# Altium footprint library Indicator.PcbLib: 14 footprints
Each footprint in its own frame and in the unit in brackets; x right, y up, seen from the top. Pads: shape width x height; smd on the part's side, far side on the other; paste and mask are expansions set on the pad; w line width, h text height; cw(c..) or ccw(c..) is an arc to the next point about the centre after c.
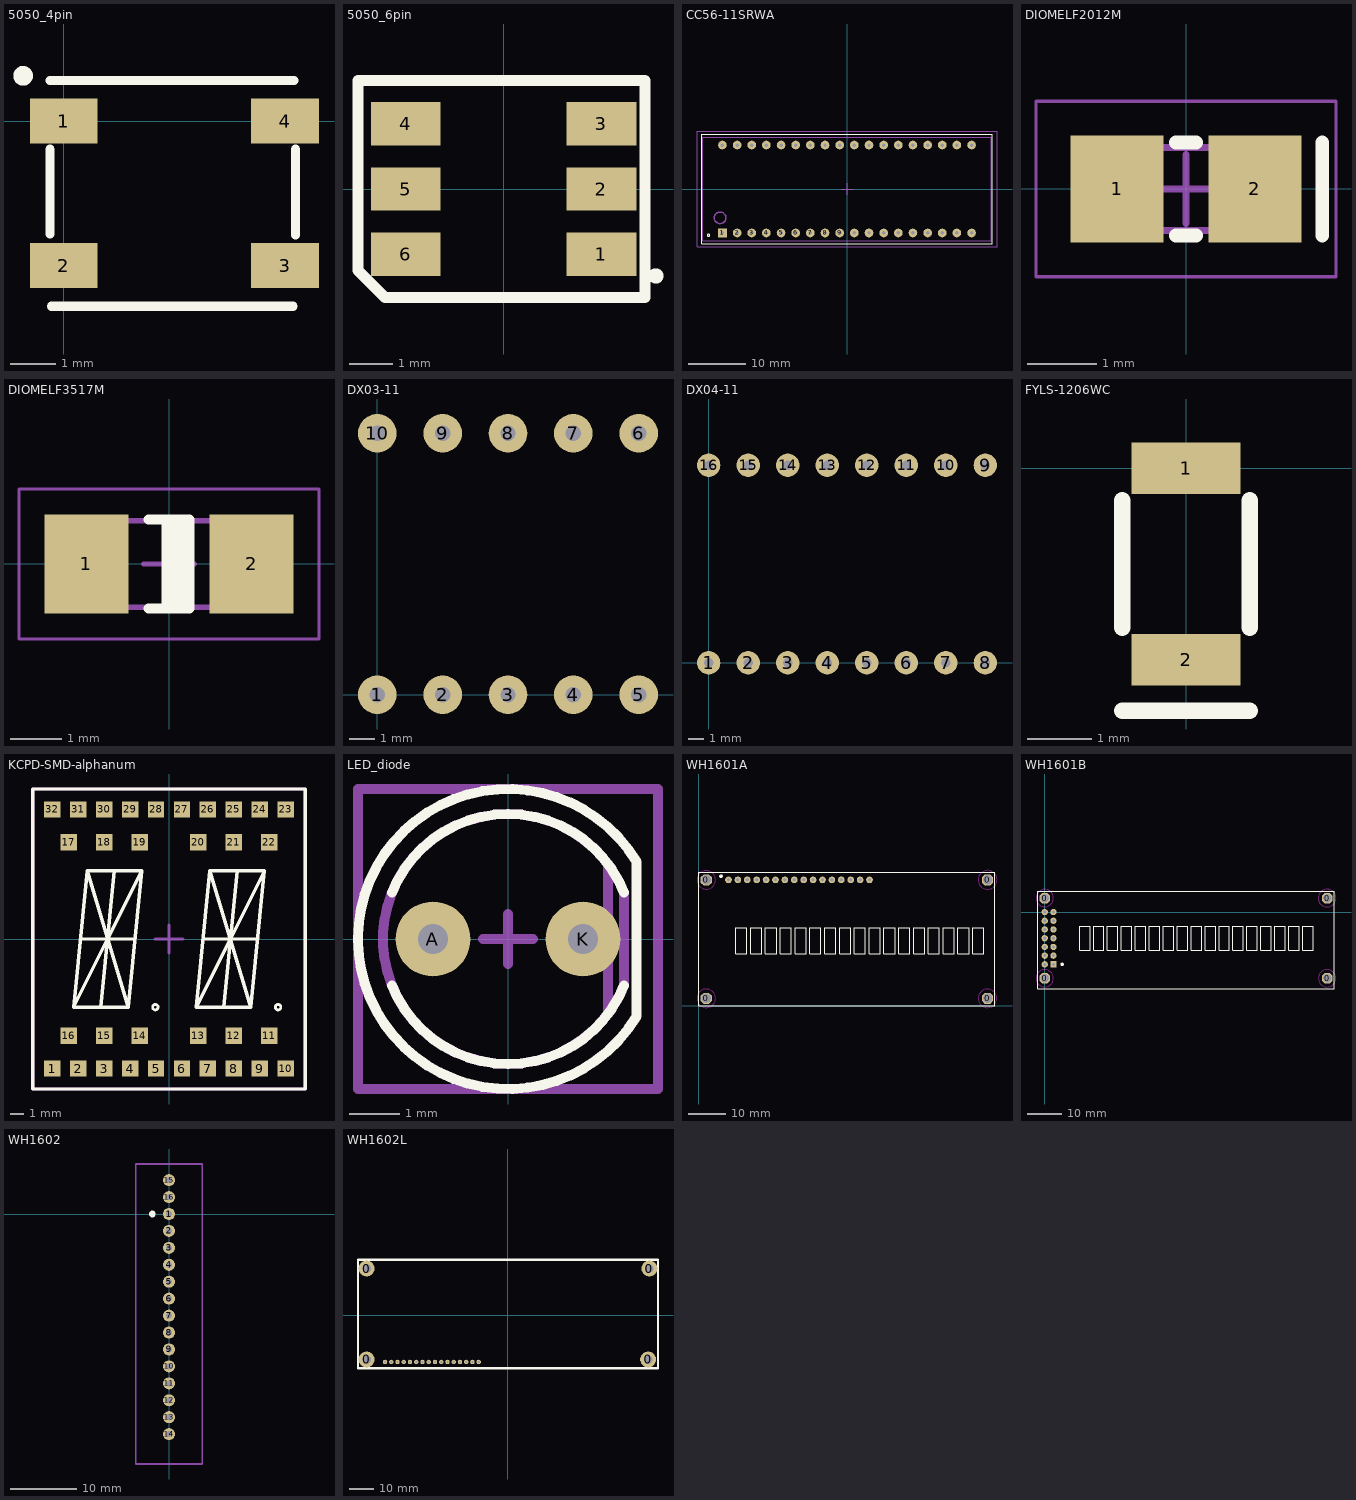
[diagram p0: the footprints below, top view; thin cyan lines are the x and y axes]

## 5050_4pin [mm] "LED 5*5 mm"
height 4
pads (4):
  rect 1.5x1 smd: 1(0,0) 2(0,-3.2) 3(4.9,-3.2) 4(4.9,0)
Top Overlay:
  circle w0.254: c-0.9,1 r0.09
  lines w0.2: -0.3,-2.5 -0.3,-0.625 ; -0.3,0.9 5.1,0.9 ; -0.275,-4.1 5.075,-4.1 ; 5.125,-2.525 5.125,-0.625
3D body "led5050.SLDPRT": height 1.5, standoff 0, extent -0.275,-4.1 5.125,0.9

## 5050_6pin [mm] "LED 5*5 mm"
height 4
pads (6):
  rect 1.6x1 smd: 1(2.25,-1.5) 2(2.25,0) 3(2.25,1.5) 4(-2.25,1.5) 5(-2.25,0) 6(-2.25,-1.5)
Top Overlay:
  circle w0.254: c3.5,-2 r0.05
  lines w0.254: -3.35,-1.875 -3.35,2.5 3.25,2.5 3.25,-2.5 -2.725,-2.5 -3.35,-1.875
3D body "led5050.SLDPRT": height 1.5, standoff 0, extent -2.7,-2.5 2.7,2.5

## CC56-11SRWA [mm]
pads (36):
  rect 1.5x1.5 hole 0.6: 1(-21.59,-7.62)
  round 1.5 hole 0.6: 2(-19.05,-7.62) 3(-16.51,-7.62) 4(-13.97,-7.62) 5(-11.43,-7.62) 6(-8.89,-7.62) 7(-6.35,-7.62) 8(-3.81,-7.62) 9(-1.27,-7.62) 10(1.27,-7.62) 11(3.81,-7.62) 12(6.35,-7.62) 13(8.89,-7.62) 14(11.43,-7.62) 15(13.97,-7.62) 16(16.51,-7.62) 17(19.05,-7.62) 18(21.59,-7.62) 19(21.59,7.62) 20(19.05,7.62) 21(16.51,7.62) 22(13.97,7.62) 23(11.43,7.62) 24(8.89,7.62) 25(6.35,7.62) 26(3.81,7.62) 27(1.27,7.62) 28(-1.27,7.62) 29(-3.81,7.62) 30(-6.35,7.62) 31(-8.89,7.62) 32(-11.43,7.62) 33(-13.97,7.62) 34(-16.51,7.62) 35(-19.05,7.62) 36(-21.59,7.62)
Top Overlay:
  circle w0.2: c-24,-8 r0.2
  lines w0.2: -25.15,-9.5 25.15,-9.5 25.15,9.5 -25.15,9.5 -25.15,-9.5
Mechanical 13:
  circle w0.254: c-22,-5 r1
  lines w0.1: -25,-9 -25,9 25,9 25,-9 -25,-9
Mechanical 15:
  lines w0.05: -26,-10 26,-10 26,10 -26,10 -26,-10
  lines w0.1: -1,0 1,0 ; 0,-1 0,1
3D body "CC56-11SRWA.stp": height 8.2, standoff -1.78, extent -25.15,-9.5 25.15,9.5

## DIOMELF2012M [mm] "MELF Diode, 2-Leads, Body 2,00x1,20mm, IPC Low Density"
height 1.2
pads (2):
  rect 1.35x1.55 smd: 1(-1,0) 2(1,0)
Top Overlay:
  lines w0.2: -0.15,-0.675 0.15,-0.675 ; -0.15,0.675 0.15,0.675 ; 1.975,-0.675 1.975,0.675
Mechanical 13:
  lines w0.1: -1,-0.6 1,-0.6 1,0.6 -1,0.6 -1,-0.6
Mechanical 15:
  lines w0.05: -2.175,-1.275 2.175,-1.275 2.175,1.275 -2.175,1.275 -2.175,-1.275
  lines w0.1: -0.5,0 0.5,0 ; 0,-0.5 0,0.5
3D body: height 1.2, standoff 0, extent 0.6,-0.6 1,0.598
3D body: height 1.18, standoff 0.05, extent -0.6,-0.57 0.6,0.568
3D body: height 1.18, standoff 0.04, extent -0.6,-0.571 0,0.569
3D body: height 1.2, standoff 0, extent -1,-0.6 -0.6,0.598

## DIOMELF3517M [mm] "MELF Diode, 2-Leads, Body 3,45x1,65mm, IPC Low Density"
height 1.7
pads (2):
  rect 1.65x1.95 smd: 1(-1.625,0) 2(1.625,0)
Top Overlay:
  rectangle: -0.15,-0.875 0.4,0.875
  lines w0.2: -0.4,-0.875 0.4,-0.875 0.4,0.875 -0.4,0.875
Mechanical 13:
  lines w0.1: -1.85,-0.85 1.85,-0.85 1.85,0.85 -1.85,0.85 -1.85,-0.85
Mechanical 15:
  lines w0.05: -2.95,-1.475 2.95,-1.475 2.95,1.475 -2.95,1.475 -2.95,-1.475
  lines w0.1: -0.5,0 0.5,0 ; 0,-0.5 0,0.5
3D body: height 2, standoff 1, extent -0.794,-0.798 0.8,0.798
3D body: height 1.69, standoff 0, extent 1.25,-0.85 1.85,0.847
3D body: height 1.68, standoff 0.04, extent -1.25,-0.82 1.25,0.817
3D body: height 1.68, standoff 0.04, extent 0.05,-0.821 0.65,0.818
3D body: height 1.69, standoff 0, extent -1.85,-0.85 -1.25,0.847

## DX03-11 [mm] "7-segment; 7.6mm; 2 char"
pads (10):
  round 1.5 hole 0.6: 1(0,0) 2(2.54,0) 3(5.08,0) 4(7.62,0) 5(10.16,0) 6(10.16,10.16) 7(7.62,10.16) 8(5.08,10.16) 9(2.54,10.16) 10(0,10.16)
3D body "DX03-11.stp": height 7.3, standoff -3.9, extent -2.67,-2.42 12.83,12.58

## DX04-11 [mm]
height 11
pads (16):
  round 1.5 hole 0.6: 1(0,0) 2(2.54,0) 3(5.08,0) 4(7.62,0) 5(10.16,0) 6(12.7,0) 7(15.24,0) 8(17.78,0) 9(17.78,12.7) 10(15.24,12.7) 11(12.7,12.7) 12(10.16,12.7) 13(7.62,12.7) 14(5.08,12.7) 15(2.54,12.7) 16(0,12.7)
3D body "DX04.STEP": height 8, standoff -3, extent -1.2,-1.7 19,14.3

## FYLS-1206WC [mm] "LED"
height 1.1
pads (2):
  rect 1.7x0.8 smd: 1(0,0) 2(0,-3)
Top Overlay:
  lines w0.254: -1,-3.8 1,-3.8 ; -1,-2.5 -1,-0.5 ; 1,-2.5 1,-0.5
3D body: height 1.1, standoff 0.5, extent -0.8,-2.5 0.8,-0.5
3D body: height 0.5, standoff 0, extent -0.8,-3.1 0.8,0.1

## KCPD-SMD-alphanum [mm] "Alphanumerical kingbright led display KCPD format"
height 3.75
pads (32):
  rect 1.2x1.2 smd: 1(-8.55,-9.5) 2(-6.65,-9.5) 3(-4.75,-9.5) 4(-2.85,-9.5) 5(-0.95,-9.5) 6(0.95,-9.5) 7(2.85,-9.5) 8(4.75,-9.5) 9(6.65,-9.5) 10(8.55,-9.5) 11(7.35,-7.1) 12(4.75,-7.1) 13(2.15,-7.1) 14(-2.15,-7.1) 15(-4.75,-7.1) 16(-7.35,-7.1) 17(-7.35,7.1) 18(-4.75,7.1) 19(-2.15,7.1) 20(2.15,7.1) 21(4.75,7.1) 22(7.35,7.1) 23(8.55,9.5) 24(6.65,9.5) 25(4.75,9.5) 26(2.85,9.5) 27(0.95,9.5) 28(-0.95,9.5) 29(-2.85,9.5) 30(-4.75,9.5) 31(-6.65,9.5) 32(-8.55,9.5)
Top Overlay:
  circle w0.2: c-1,-5 r0.2
  circle w0.2: c8,-5 r0.2
  lines w0.254: -6.5,0 -2.5,0 ; -5,-5 -4,5 ; 2.5,0 6.5,0 ; 4,-5 5,5 ; -7,-5 -6,5 ; -7,-5 -3,-5 ; -7,-5 -4.5,0 ; -6,5 -2,5 ; -6,5 -4.5,0 ; -4.5,0 -2,5 ; -4.5,0 -3,-5 ; -3,-5 -2,5 ; 2,-5 4.5,0 ; 2,-5 6,-5 ; 2,-5 3,5 ; 3,5 4.5,0 ; 3,5 7,5 ; 4.5,0 6,-5 ; 4.5,0 7,5 ; 6,-5 7,5 ; -10,-11 10,-11 10,11 -10,11 -10,-11
Mechanical 13:
  lines w0.254: -10,-11 -10,11 10,11 10,-11 -10,-11
Mechanical 15:
  lines w0.254: -1,0 0,0 ; 0,-1 0,0 ; 0,1 0,0 ; 1,0 0,0 ; -10,-11 10,-11 10,11 -10,11 -10,-11
3D body "XCPSX04.stp": height 4, standoff 0.23, extent -9.4,-9.5 -0.1,9.5
3D body "XCPSX04.stp": height 4, standoff 0.23, extent 0.1,-9.475 9.4,9.525

## LED_diode [mm]
pads (2):
  round 1.5 hole 0.6: A(-1.5,0) K(1.5,0)
Top Overlay:
  lines w0.2: -2.321,-0.928 ccw(c0,0) 2.321,-0.928 ; -2.321,0.928 cw(c0,0) 2.321,0.928 ; 2.572,-1.543 cw(c0,0) 2.572,1.543 2.572,-1.543
Mechanical 13:
  lines w0.2: 2,-1.5 2,1.5 ; 2.321,-0.928 cw(c0,0) 2.321,0.928 2.321,-0.928
Mechanical 15:
  lines w0.2: -0.5,0 0,0 ; 0,-0.5 0,0 ; 0,0.5 0,0 ; 0.5,0 0,0 ; -3,-3 -3,3 3,3 3,-3 -3,-3
3D body: height 0.6, standoff 0.1, extent -2.976,-2.994 3,2.994
3D body: height 7.5, standoff 2.5, extent -2.474,-2.489 2.5,2.489
3D body: height 5.1, standoff 0.1, extent -2.48,-2.495 2.5,2.495

## WH1601A [mm]
pads (20):
  oct 3x3 hole 2.5: 0(2,34) 0(2,2) 0(78,2) 0(78,34)
  round 1.8 hole 0.9: 1(8,34) 2(10.54,34) 3(13.08,34) 4(15.62,34) 5(18.16,34) 6(20.7,34) 7(23.24,34) 8(25.78,34) 9(28.32,34) 10(30.86,34) 11(33.4,34) 12(35.94,34) 13(38.48,34) 14(41.02,34) 15(43.56,34) 16(46.1,34)
Top Overlay:
  circle w0.5: c6,35 r0.25
  lines w0.2: 0,0 0,36 80,36 80,0 0,0
  lines w0.254: 10,14 10,21 13,21 13,14 10,14 ; 14,14 17,14 17,21 14,21 14,14 ; 18,14 21,14 21,21 18,21 18,14 ; 22,14 25,14 25,21 22,21 22,14 ; 26,14 29,14 29,21 26,21 26,14 ; 30,14 33,14 33,21 30,21 30,14 ; 34,14 37,14 37,21 34,21 34,14 ; 38,14 41,14 41,21 38,21 38,14 ; 42,14 45,14 45,21 42,21 42,14 ; 46,14 49,14 49,21 46,21 46,14 ; 50,14 53,14 53,21 50,21 50,14 ; 54,14 57,14 57,21 54,21 54,14 ; 58,14 61,14 61,21 58,21 58,14 ; 62,14 65,14 65,21 62,21 62,14 ; 66,14 69,14 69,21 66,21 66,14 ; 70,14 73,14 73,21 70,21 70,14 ; 74,14 77,14 77,21 74,21 74,14
Keep-Out Layer:
  circle w0.2: c2,2 r2.5
  circle w0.2: c2,34 r2.5
  circle w0.2: c78,34 r2.55
  circle w0.2: c78,2 r2.5
3D body: height 12, standoff 11, extent 76.512,32.503 79.5,35.497
3D body: height 12, standoff 11, extent 76.512,0.503 79.5,3.497
3D body: height 12, standoff 11, extent 0.512,0.503 3.5,3.497
3D body: height 12, standoff 11, extent 0.512,32.503 3.5,35.497
3D body: height 11, standoff 10, extent 0,0 80,36
3D body: height 9, standoff 0, extent 1.603,33.601 2.4,34.399
3D body: height 9, standoff 0, extent 1.603,1.601 2.4,2.399
3D body: height 9, standoff 0, extent 77.603,33.601 78.4,34.399
3D body: height 9, standoff 0, extent 77.603,1.601 78.4,2.399

## WH1601B [mm]
pads (18):
  oct 3x3 hole 2.5: 0(0,-19) 0(0,4) 0(81,-19) 0(81,4)
  rect 1.8x1.8 hole 0.9: 1(2.5,-15)
  round 1.8 hole 0.9: 2(0,-15) 3(2.5,-12.5) 4(0,-12.5) 5(2.5,-10) 6(0,-10) 7(2.5,-7.5) 8(0,-7.5) 9(2.5,-5) 10(0,-5) 11(2.5,-2.5) 12(0,-2.5) 13(2.5,0) 14(0,0)
Top Overlay:
  circle w0.5: c5,-15 r0.25
  lines w0.2: -2,-22 -2,6 83,6 83,-22 -2,-22
  lines w0.254: 10,-11 10,-4 13,-4 13,-11 10,-11 ; 14,-11 17,-11 17,-4 14,-4 14,-11 ; 18,-11 21,-11 21,-4 18,-4 18,-11 ; 22,-11 25,-11 25,-4 22,-4 22,-11 ; 26,-11 29,-11 29,-4 26,-4 26,-11 ; 30,-11 33,-11 33,-4 30,-4 30,-11 ; 34,-11 37,-11 37,-4 34,-4 34,-11 ; 38,-11 41,-11 41,-4 38,-4 38,-11 ; 42,-11 45,-11 45,-4 42,-4 42,-11 ; 46,-11 49,-11 49,-4 46,-4 46,-11 ; 50,-11 53,-11 53,-4 50,-4 50,-11 ; 54,-11 57,-11 57,-4 54,-4 54,-11 ; 58,-11 61,-11 61,-4 58,-4 58,-11 ; 62,-11 65,-11 65,-4 62,-4 62,-11 ; 66,-11 69,-11 69,-4 66,-4 66,-11 ; 70,-11 73,-11 73,-4 70,-4 70,-11 ; 74,-11 77,-11 77,-4 74,-4 74,-11
Keep-Out Layer:
  circle w0.2: c0,-19 r2.5
  circle w0.2: c0,4 r2.5
  circle w0.2: c81,4 r2.55
  circle w0.2: c81,-19 r2.5
3D body: height 12, standoff 11, extent 79.512,2.503 82.5,5.497
3D body: height 12, standoff 11, extent 79.512,-20.497 82.5,-17.503
3D body: height 12, standoff 11, extent -1.488,-20.497 1.5,-17.503
3D body: height 12, standoff 11, extent -1.488,2.503 1.5,5.497
3D body: height 11, standoff 10, extent -2,-22 83,6
3D body: height 10, standoff 8, extent -2,-17 4,2
3D body: height 9, standoff 0, extent -0.248,-0.249 0.25,0.25
3D body: height 9, standoff 0, extent 2.252,-0.249 2.75,0.25
3D body: height 9, standoff 0, extent -0.248,-2.749 0.25,-2.25
3D body: height 9, standoff 0, extent 2.252,-2.749 2.75,-2.25
3D body: height 9, standoff 0, extent -0.248,-5.249 0.25,-4.75
3D body: height 9, standoff 0, extent 2.252,-5.249 2.75,-4.75
3D body: height 9, standoff 0, extent -0.248,-7.749 0.25,-7.25
3D body: height 9, standoff 0, extent 2.252,-7.749 2.75,-7.25
3D body: height 9, standoff 0, extent -0.248,-10.249 0.25,-9.75
3D body: height 9, standoff 0, extent 2.252,-10.249 2.75,-9.75
3D body: height 9, standoff 0, extent -0.248,-12.749 0.25,-12.25
3D body: height 9, standoff 0, extent 2.252,-12.749 2.75,-12.25
3D body: height 9, standoff 0, extent -0.248,-15.249 0.25,-14.75
3D body: height 9, standoff 0, extent 2.252,-15.249 2.75,-14.75
3D body: height 7, standoff 0, extent -2,-17 4,2
3D body: height 9, standoff 0, extent -0.397,3.601 0.4,4.399
3D body: height 9, standoff 0, extent -0.397,-19.399 0.4,-18.601
3D body: height 9, standoff 0, extent 80.603,3.601 81.4,4.399
3D body: height 9, standoff 0, extent 80.603,-19.399 81.4,-18.601

## WH1602 [mm]
pads (16):
  round 1.8 hole 0.9: 1(0,0) 2(0,-2.54) 3(0,-5.08) 4(0,-7.62) 5(0,-10.16) 6(0,-12.7) 7(0,-15.24) 8(0,-17.78) 9(0,-20.32) 10(0,-22.86) 11(0,-25.4) 12(0,-27.94) 13(0,-30.48) 14(0,-33.02) 15(0,5.08) 16(0,2.54)
Top Overlay:
  circle w0.5: c-2.5,0 r0.25
Mechanical 15:
  lines w0.254: -5,-37.5 -5,7.5 5,7.5 5,-37.5 -5,-37.5

## WH1602L [mm]
height 13.6
pads (20):
  round 6.5 hole 3.5: 0(-57.5,-18) 0(-57.5,19) 0(57,-18) 0(57.5,19)
  round 1.8 hole 0.9: 1(-17,-19) 2(-19.54,-19) 3(-22.08,-19) 4(-24.62,-19) 5(-27.16,-19) 6(-29.7,-19) 7(-32.24,-19) 8(-34.78,-19) 9(-37.32,-19) 10(-39.86,-19) 11(-42.4,-19) 12(-44.94,-19) 13(-47.48,-19) 14(-50,-19) 15(-14.46,-19) 16(-11.92,-19)
Top Overlay:
  lines w1: -61,-21.5 61,-21.5 61,22.5 -61,22.5 -61,-21.5
3D body "WH1602L.step": height 15.6, standoff 2.5, extent -61,-21.5 61,22.5